# Altium footprint library ds1069_3_mrw6xa.PcbLib: 1 footprints
Each footprint in its own frame and in the unit in brackets; x right, y up, seen from the top. Pads: shape width x height; smd on the part's side, far side on the other; paste and mask are expansions set on the pad; w line width, h text height; cw(c..) or ccw(c..) is an arc to the next point about the centre after c.
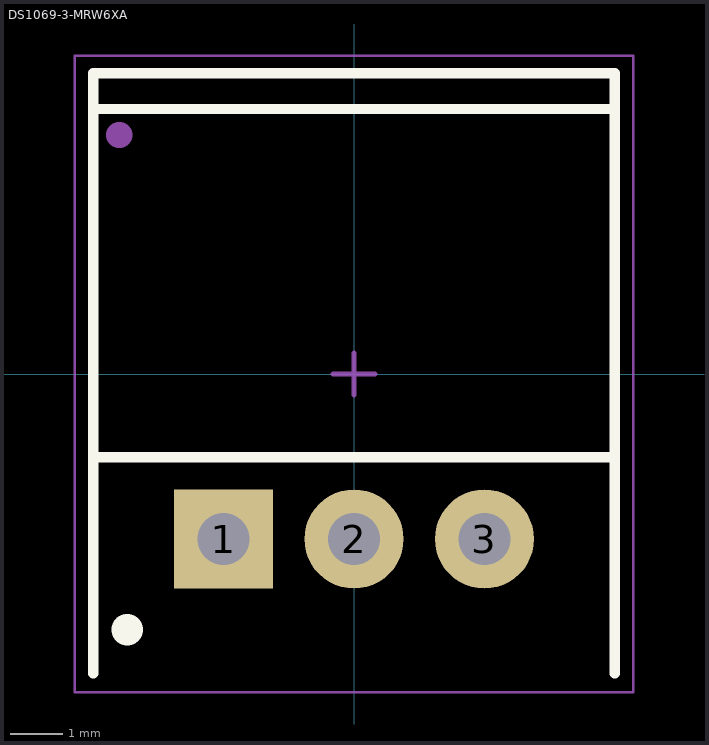
[diagram p0: the footprint, top view; thin cyan lines are the x and y axes]

## DS1069-3-MRW6XA [mm]
height 7
pads (3):
  rect 1.9x1.9 hole 1: 1(-2.5,-3.164)
  round 1.9 hole 1: 2(0,-3.164) 3(2.5,-3.164)
Top Overlay:
  circle w0.6: c-4.35,-4.9 r0.001
  lines w0.2: -5,-5.737 -5,5.763 5,5.763 5,-5.737 ; -5,-1.6 5,-1.6 ; -5,5.08 5,5.08
Top Comment:
  text ".Comment" at 1,6.2 h1.2
Top Designator:
  text ".Designator" at -0.9,6.2 h1.2
Top Component Outline:
  lines w0.1: -5,5.08 5,5.08 ; -5,-1.62 -5,5.763 5,5.763 5,-1.62 -5,-1.62
  lines w0.5: -4.5,4.58 -4.495,4.585
Top Courtyard (Mech15):
  lines w0.05: -5.35,-6.1 5.35,-6.1 5.35,6.1 -5.35,6.1 -5.35,-6.1
  lines w0.1: -0.4,0 0.4,0 ; 0,-0.4 0,0.4
3D body "DS1069-3R (CWF-3R).step": height 5.85, standoff -3.4, extent -5,-5.737 5,5.763